# Altium footprint library Capacitors.PcbLib: 19 footprints (part 1 of 2)
Each footprint in its own frame and in the unit in brackets; x right, y up, seen from the top. Pads: shape width x height; smd on the part's side, far side on the other; paste and mask are expansions set on the pad; w line width, h text height; cw(c..) or ccw(c..) is an arc to the next point about the centre after c.
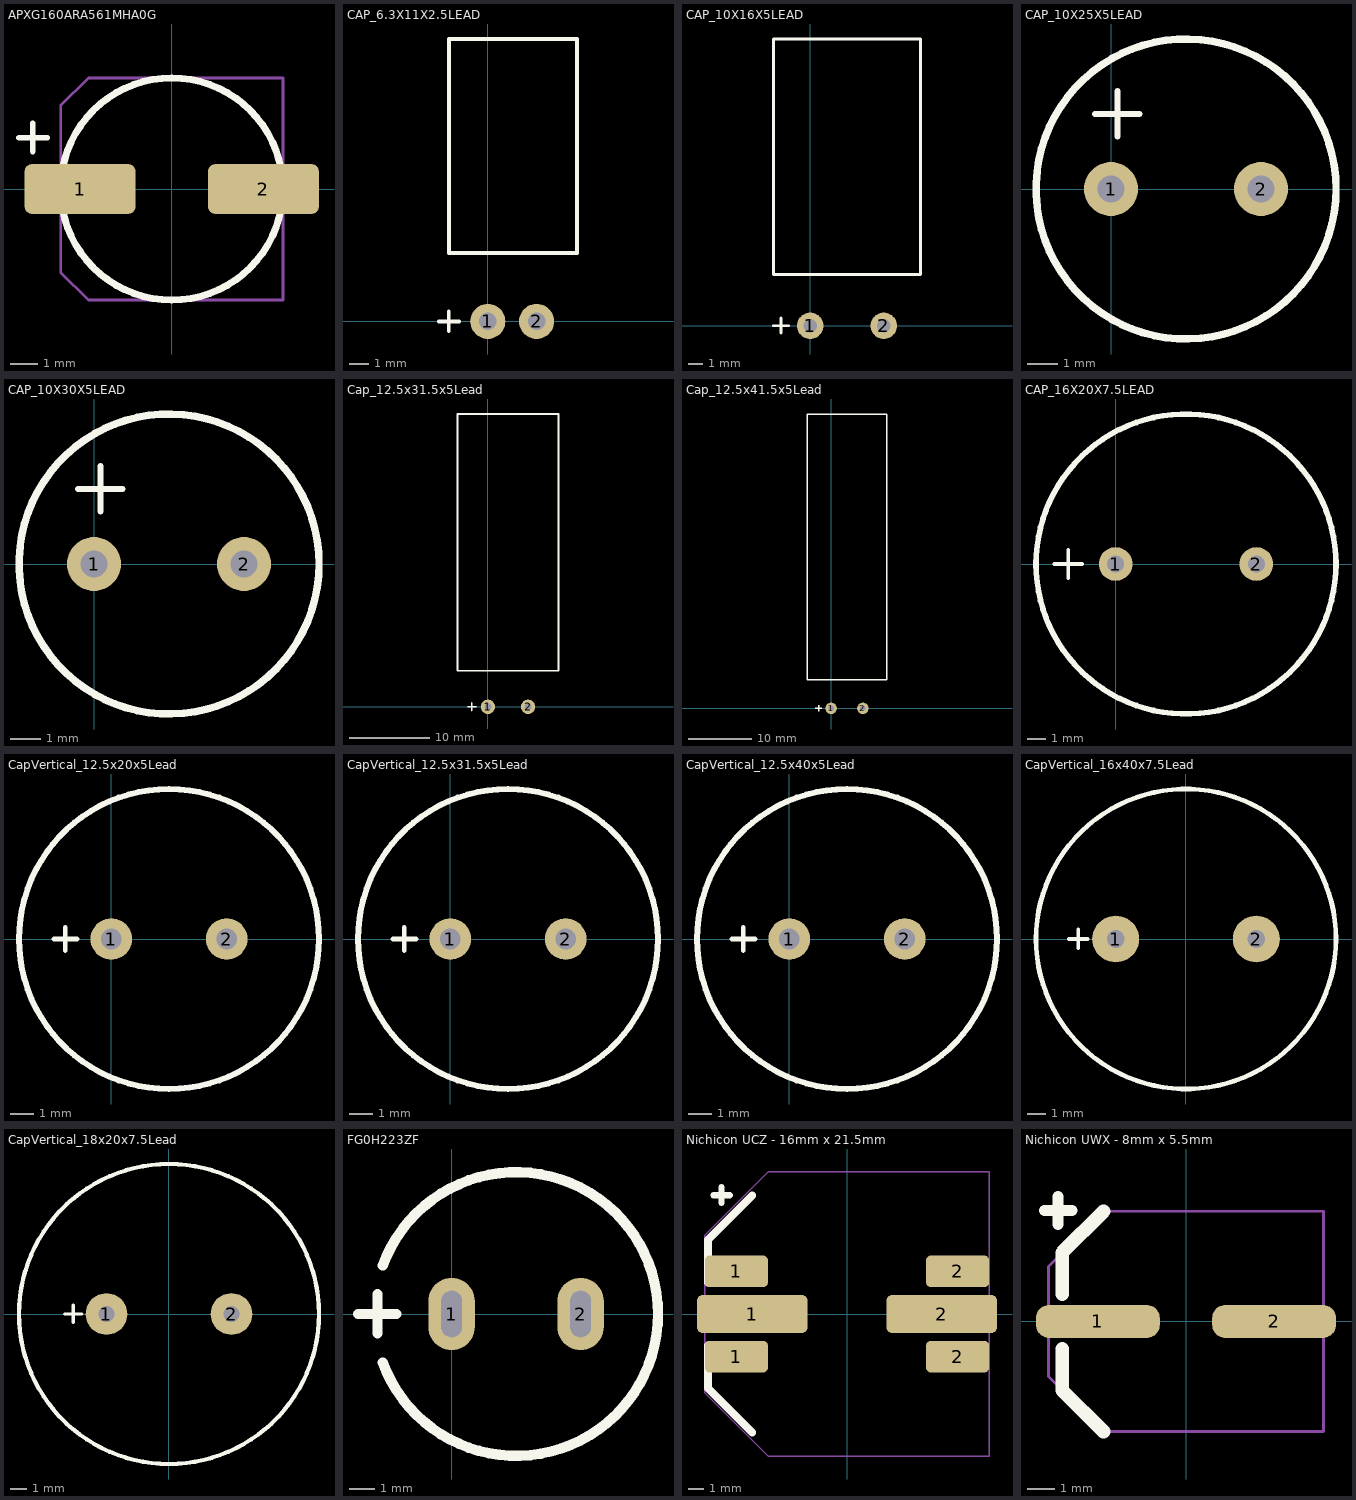
[diagram p0: the footprints below, top view; thin cyan lines are the x and y axes]

## APXG160ARA561MHA0G [mm]
height 10
pads (2):
  rrect30% 4x1.8 smd paste-0.03: 1(-3.3,0) 2(3.3,0)
Top Overlay:
  circle w0.254: c0,0 r4
  lines w0.2: -5.5,1.85 -4.484,1.85 ; -5,1.35 -5,2.366
Assembly:
  lines w0.1: -4,-3 -4,3 -3,4 4,4 4,-4 -3,-4 -4,-3
  text ".Designator" at -3.6,-0.5 h2
3D body: height 10, standoff 0, extent -4,-4 4,4
3D body: height 2, standoff 0, extent -4.15,-4.15 4.15,4.15

## CAP_6.3X11X2.5LEAD [mm]
height 5
pads (2):
  round 1.8 hole 0.9: 1(0,0) 2(2.5,0)
Top Overlay:
  lines w0.2: -2.5,0 -1.484,0 ; -2,-0.5 -2,0.516 ; -1.992,3.5 4.572,3.5 4.572,14.478 -1.992,14.478 -1.992,3.5
3D body: height 8.24, standoff 1.76, extent -1.972,3.5 4.502,14.5

## CAP_10X16X5LEAD [mm]
height 5
pads (2):
  round 1.8 hole 0.9: 1(0,0) 2(5,0)
Top Overlay:
  lines w0.2: -2.5,0 -1.484,0 ; -2,-0.5 -2,0.516 ; -2.5,3.5 7.5,3.5 7.5,19.5 -2.5,19.5 -2.5,3.5
3D body: height 9.99, standoff 0.01, extent -2.48,3.5 7.48,19.5

## CAP_10X25X5LEAD [mm]
height 5
pads (2):
  round 1.8 hole 0.9: 1(0,0) 2(5,0)
Top Overlay:
  circle w0.25: c2.5,0 r5
  lines w0.2: -0.532,2.5 0.952,2.5 ; 0.222,1.746 0.222,3.262
3D body: height 25, standoff 0, extent -2.461,-5 7.5,4.98

## CAP_10X30X5LEAD [mm]
height 30
pads (2):
  round 1.8 hole 0.9: 1(0,0) 2(5,0)
Top Overlay:
  circle w0.25: c2.5,0 r5
  lines w0.2: -0.532,2.5 0.952,2.5 ; 0.222,1.746 0.222,3.262
3D body: height 30, standoff 0, extent -2.5,-5.01 7.5,4.99

## Cap_12.5x31.5x5Lead [mm]
height 12.5
pads (2):
  round 1.8 hole 0.9: 1(0,0) 2(5,0)
Top Overlay:
  lines w0.2: -2.5,0 -1.484,0 ; -2,-0.5 -2,0.516 ; -3.8,4.5 8.8,4.5 8.8,36.5 -3.8,36.5 -3.8,4.5
3D body: height 12.59, standoff 0.01, extent -3.775,4.5 8.775,36.5

## Cap_12.5x41.5x5Lead [mm]
height 12.5
pads (2):
  round 1.8 hole 0.9: 1(0,0) 2(5,0)
Top Overlay:
  lines w0.2: -2.5,0 -1.484,0 ; -2,-0.5 -2,0.516 ; -3.8,4.5 8.8,4.5 8.8,46.5 -3.8,46.5 -3.8,4.5
3D body: height 15.3, standoff 2.7, extent -3.825,4.5 8.775,46.5

## CAP_16X20X7.5LEAD [mm]
height 5
pads (2):
  round 1.8 hole 0.9: 1(0,0) 2(7.5,0)
Top Overlay:
  circle w0.3: c3.75,0 r8
  lines w0.2: -3.282,0 -1.798,0 ; -2.528,-0.754 -2.528,0.762
3D body: height 20, standoff 0, extent -4.187,-7.984 11.75,7.984

## CapVertical_12.5x20x5Lead [mm]
height 31.5
pads (2):
  round 1.8 hole 0.9: 1(0,0) 2(5,0)
Top Overlay:
  circle w0.254: c2.5,0 r6.5
  lines w0.2: -2.5,0 -1.484,0 ; -2,-0.5 -2,0.516
3D body: height 20.5, standoff 0.5, extent -4.025,-6.513 8.974,6.487

## CapVertical_12.5x31.5x5Lead [mm]
height 31.5
pads (2):
  round 1.8 hole 0.9: 1(0,0) 2(5,0)
Top Overlay:
  circle w0.254: c2.5,0 r6.5
  lines w0.2: -2.5,0 -1.484,0 ; -2,-0.5 -2,0.516
3D body: height 32.5, standoff 0.5, extent -3.974,-6.5 8.974,6.474

## CapVertical_12.5x40x5Lead [mm]
height 41.5
pads (2):
  round 1.8 hole 0.9: 1(0,0) 2(5,0)
Top Overlay:
  circle w0.254: c2.5,0 r6.5
  lines w0.2: -2.5,0 -1.484,0 ; -2,-0.5 -2,0.516
3D body: height 40.5, standoff 0.5, extent -4.025,-6.513 8.974,6.487

## CapVertical_16x40x7.5Lead [mm]
height 41.5
pads (2):
  round 2.5 hole 0.95: 1(-3.75,0) 2(3.75,0)
Top Overlay:
  circle w0.254: c0,0 r8
  lines w0.2: -6.25,0 -5.234,0 ; -5.75,-0.5 -5.75,0.516
3D body: height 40.5, standoff 0.5, extent -8.025,-8.013 7.974,7.987

## CapVertical_18x20x7.5Lead [mm]
height 21.5
pads (2):
  round 2.5 hole 0.95: 1(-3.75,0) 2(3.75,0)
Top Overlay:
  circle w0.254: c0,0 r9
  lines w0.2: -6.25,0 -5.234,0 ; -5.75,-0.5 -5.75,0.516
3D body: height 20.5, standoff 0.5, extent -9.025,-9.013 8.974,8.987

## FG0H223ZF [mm] "22 mF (EDLC) Supercapacitor 5.5 V Radial, Can 200Ohm @ 1kHz"
height 5.5
pads (2):
  rrect100% 1.8x2.8 hole 0.8 slot 1.8 at 90 deg: 1(0,0) 2(5,0)
Top Overlay:
  lines w0.4: -3.632,0 -2.148,0 ; -2.878,-0.754 -2.878,0.762 ; -2.668,-1.881 ccw(c2.5,0) -2.668,1.881
3D body: height 5.5, standoff 0, extent -3,-5.51 8,5.49
3D body: height 0, standoff -2.9, extent 4.9,-0.6 5.1,0.6
3D body: height 0, standoff -2.9, extent -0.1,-0.6 0.1,0.6

## Nichicon UCZ - 16mm x 21.5mm [mm] "Electrolytic capacitor"
height 21.5
pads (6):
  rrect30% 4x2 smd paste-90: 1(-7,-2.7) 1(-7,2.7) 2(7,-2.7) 2(7,2.7)
  rrect30% 7x2.4 smd paste-99: 1(-6,0) 2(6,0)
Top Overlay:
  lines w0.4: -8.45,7.525 -7.434,7.525 ; -7.95,7.025 -7.95,8.041
  lines w0.5: -8.8,-2 -8.8,-4.7 -6,-7.5 ; -8.8,2 -8.8,4.7 -6,7.5
Top Paste:
  lines w0.6: -8.7,-0.85 -8.7,0.85 ; -6.925,-0.85 -6.925,0.85 ; -5.125,-0.85 -5.125,0.85 ; -3.325,-0.85 -3.325,0.85 ; 3.3,-0.85 3.3,0.85 ; 5.075,-0.85 5.075,0.85 ; 6.875,-0.85 6.875,0.85 ; 8.675,-0.85 8.675,0.85 ; -9.15,-0.85 -8.275,-0.85 -8.275,0.85 -9.15,0.85 -9.15,-0.85 ; -7.375,-0.85 -7.375,0.85 -6.475,0.85 -6.475,-0.85 -7.375,-0.85 ; -5.575,-0.85 -4.675,-0.85 -4.675,0.85 -5.575,0.85 -5.575,-0.85 ; -3.775,-0.85 -2.85,-0.85 -2.85,0.85 -3.775,0.85 -3.775,-0.85 ; 2.85,-0.85 3.725,-0.85 3.725,0.85 2.85,0.85 2.85,-0.85 ; 4.625,-0.85 4.625,0.85 5.525,0.85 5.525,-0.85 4.625,-0.85 ; 6.425,-0.85 7.325,-0.85 7.325,0.85 6.425,0.85 6.425,-0.85 ; 8.225,-0.85 9.15,-0.85 9.15,0.85 8.225,0.85 8.225,-0.85
Assembly:
  lines w0.1: -9,-5 -9,4 -9,5 -5,9 9,9 9,-9 -5,-9 -9,-5
  text ".Designator" at -6.6,-0.8 h3
3D body "Nichicon-UCZ-16x215.stp": height 21.8, standoff 0, extent -9.05,-8.55 9.05,8.55

## Nichicon UWX - 8mm x 5.5mm [mm] "Electrolytic capacitor"
height 21.5
pads (2):
  rrect80% 4.5x1.2 smd paste-99: 1(-3.2,0) 2(3.2,0)
Top Overlay:
  lines w0.4: -5.15,4.025 -4.134,4.025 ; -4.65,3.525 -4.65,4.541
  lines w0.5: -4.5,-1 -4.5,-2.5 ; -4.5,1 -4.5,2.5 ; -3,-4 -4.5,-2.5 ; -3,4 -4.5,2.5 ; -4.5,-2.5 -4.5,-2.5 ; -4.5,-2.5 -4.5,-2.5 ; -4.5,2.5 -4.5,2.5
Top Paste:
  lines w0.8: -4.9,-0.1 -4.9,0.1 -3.8,0.1 -3.8,-0.1 -4.9,-0.1 ; -2.593,-0.114 -2.593,0.086 -1.493,0.086 -1.493,-0.114 -2.593,-0.114 ; 1.5,-0.1 1.5,0.1 2.6,0.1 2.6,-0.1 1.5,-0.1 ; 3.807,-0.114 3.807,0.086 4.907,0.086 4.907,-0.114 3.807,-0.114
Assembly:
  lines w0.1: -5,2 -5,-2 -3,-4 5,-4 5,4 -3,4 -5,2 ; -5,2 -5,2
  text ".Designator" at -4.1,-0.6 h2
3D body "Nichicon-UWX-8x55.stp": height 5.7, standoff 0, extent -4.6,-4.15 4.7,4.15